# Altium schematic symbol library st-pwr-mgmt.SchLib: 1 symbol
Pins are listed as number, name and electrical type; pins without a type are passive.

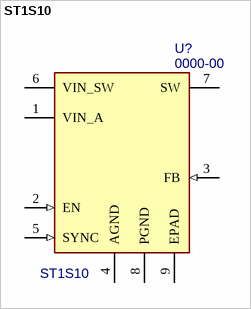
[diagram p0: symbol ST1S10]

## ST1S10
designator U?, comment 0000-00  value ST1S10
3A, 900kHZ, monolithic synchronous step-down regulator; PN: 0000-00; Package: *; ExtraInfo: *
footprint PowerSO-8 (SOP 8 - Exposed Pad)
pins: 1 VIN_A (power), 2 EN (in), 3 FB (in), 4 AGND (power), 5 SYNC (in), 6 VIN_SW (power), 7 SW (oc), 8 PGND (power), 9 EPAD (power)